# Altium schematic symbol library RMD02.SCHLIB: 7 symbols
Pins are listed as number, name and electrical type; pins without a type are passive.

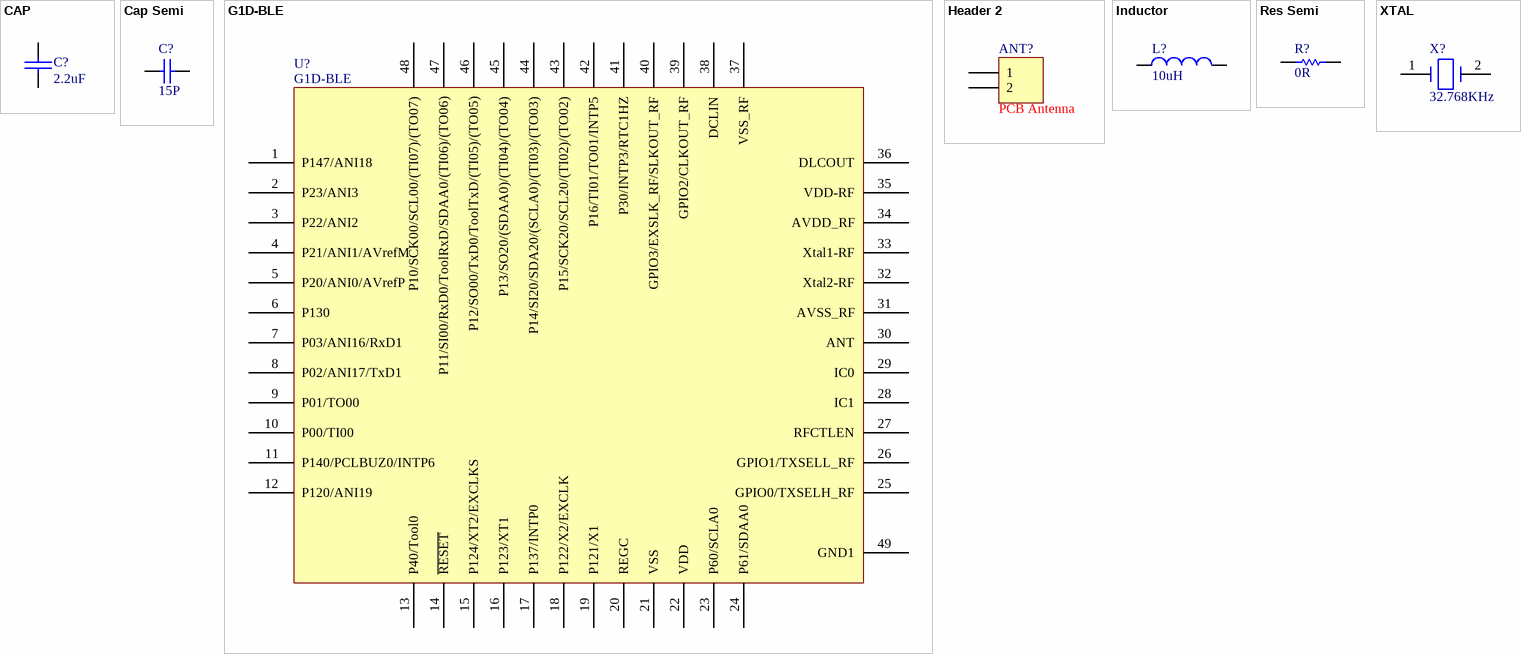
[diagram p0: symbols CAP to XTAL]

## CAP
designator C?, comment 2.2uF
Capacitor; value: 2.2uF
footprint 0603C
footprint 0805
footprint 1206
footprint 0402C
footprint 0201C
pins: 1, 2
2 alternate drawings of the same symbol

## Cap Semi
designator C?, comment 15P
Capacitor (Semiconductor SIM Model); Published: 8-Jun-2000; LatestRevisionDate: 17-Jul-2002; LatestRevisionNote: Re-released for DXP Platform.; PackageReference: C1206; Publisher: Altium Limited; Value: 15P
footprint 0201C
footprint 0402
footprint 1310[0504]
footprint 1608[0603]
footprint 0402C
pins: 1, 2
2 alternate drawings of the same symbol

## G1D-BLE
designator U?
RL78/G1D; Value: G1D-BLE
footprint QFN-48-0.4mm-6x6_G1D/BLE
pins: 1 P147/ANI18, 2 P23/ANI3, 3 P22/ANI2, 4 P21/ANI1/AVrefM, 5 P20/ANI0/AVrefP, 6 P130, 7 P03/ANI16/RxD1, 8 P02/ANI17/TxD1, 9 P01/TO00, 10 P00/TI00, 11 P140/PCLBUZ0/INTP6, 12 P120/ANI19, 13 P40/Tool0, 14 ~{RESET}, 15 P124/XT2/EXCLKS, 16 P123/XT1, 17 P137/INTP0, 18 P122/X2/EXCLK, 19 P121/X1, 20 REGC, 21 VSS, 22 VDD, 23 P60/SCLA0, 24 P61/SDAA0, 25 GPIO0/TXSELH_RF, 26 GPIO1/TXSELL_RF, 27 RFCTLEN, 28 IC1, 29 IC0, 30 ANT, 31 AVSS_RF, 32 Xtal2-RF, 33 Xtal1-RF, 34 AVDD_RF, 35 VDD-RF, 36 DLCOUT, 37 VSS_RF, 38 DCLIN, 39 GPIO2/CLKOUT_RF, 40 GPIO3/EXSLK_RF/SLKOUT_RF, 41 P30/INTP3/RTC1HZ, 42 P16/TI01/TO01/INTP5, 43 P15/SCK20/SCL20/(TI02)/(TO02), 44 P14/SI20/SDA20/(SCLA0)/(TI03)/(TO03), 45 P13/SO20/(SDAA0)/(TI04)/(TO04), 46 P12/SO00/TxD0/ToolTxD/(TI05)/(TO05), 47 P11/SI00/RxD0/ToolRxD/SDAA0/(TI06)/(TO06), 48 P10/SCK00/SCL00/(TI07)/(TO07), 49 GND1

## Header 2
designator ANT?, comment PCB Antenna
Antenna; LatestRevisionDate: 17-Jul-2002; LatestRevisionNote: Re-released for DXP Platform.; Publisher: Altium Limited; Value: Antenna
pins: 1, 2
2 alternate drawings of the same symbol

## Inductor
designator L?, comment 10uH
Inductor; Code_IEC: 1005; Published: 8-Jun-2000; LatestRevisionDate: 17-Jul-2002; LatestRevisionNote: Re-released for DXP Platform.; PackageReference: 0402-A; Publisher: Altium Limited; Code_JEITA: 0402; Value: 10uH
footprint 0402L
footprint L0603
footprint 2012_Chip
footprint 2029
footprint 0201
footprint 0402
pins: 1, 2
2 alternate drawings of the same symbol

## Res Semi
designator R?, comment 0R
Semiconductor Resistor; Published: 8-Jun-2000; LatestRevisionDate: 17-Jul-2002; LatestRevisionNote: Re-released for DXP Platform.; PackageReference: AXIAL-0.5; Publisher: Altium Limited; Value: 0R
footprint AXIAL-0.5
footprint 1005[0402]
footprint 1608[0603]
footprint 2012[0805]
footprint 0201
footprint 0402
pins: 1, 2
2 alternate drawings of the same symbol

## XTAL
designator X?, comment 32.768KHz
XTAL; Text Field1: 20; Text Field2: 20; Value: 32.768KHz
footprint XTAL
footprint FX3
footprint 76.8K
footprint 76.8K1
footprint XTAL-SMD-32*15
pins: 1, 2
2 alternate drawings of the same symbol